# EAGLE library part TPS6420* (library CougsInSpace-IC-Power)
DC/DC Converter Buck TPS6420x <https://github.com/CougsInSpace/Resources/blob/master/SupplierDocuments/Ti/TPS64200_BuckController.pdf>
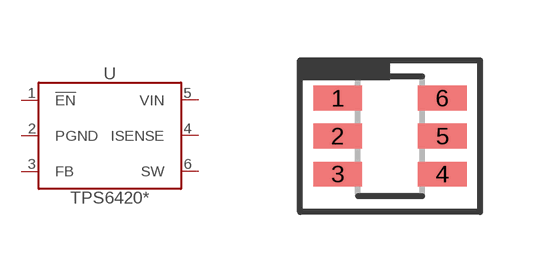
[diagram p3: symbol with the pads of SOT23-6; footprint SOT23-6]

Designator prefix U

## TPS64200 (MIN-OFF: 600ns; MIN-ON: 1.6µs; SKU: 60-0004; VALUE: TPS64200)  [SOT23-6]
1  !EN  in
2  PGND  pwr
3  FB  in
4  ISENSE  in
5  VIN  pwr
6  SW  out

## Footprint SOT23-6 (pad centres in mm)
SOT23 - 6 Pin
smd 1.22 x 0.62: 1 -1.31,0.95; 2 -1.31,0; 3 -1.31,-0.95; 4 1.31,-0.95; 5 1.31,0; 6 1.31,0.95